# EAGLE library part B10P-VH (library con-jst-vh)
HEADER
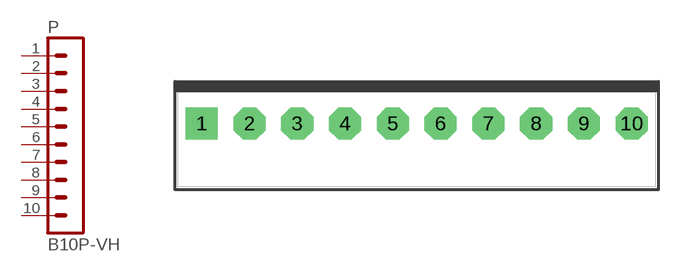
[diagram p4: symbol with the pads of B10P-VH; footprint B10P-VH]

Designator prefix P

## B10P-VH  [B10P-VH]
1  1  pas
2  2  pas
3  3  pas
4  4  pas
5  5  pas
6  6  pas
7  7  pas
8  8  pas
9  9  pas
10  10  pas

## Footprint B10P-VH (pad centres in mm)
HEADER
drill 1.778 square: 1 -17.82,0
drill 1.778 octagon: 2 -13.86,0; 3 -9.9,0; 4 -5.94,0; 5 -1.98,0; 6 1.98,0; 7 5.94,0; 8 9.9,0; 9 13.86,0; 10 17.82,0